# Altium footprint library CM7V-T1A-LOW-ESR-32.768KHZ-12.5PF-20-TA-QC.PcbLib: 2 footprints
Each footprint in its own frame and in the unit in brackets; x right, y up, seen from the top. Pads: shape width x height; smd on the part's side, far side on the other; paste and mask are expansions set on the pad; w line width, h text height; cw(c..) or ccw(c..) is an arc to the next point about the centre after c.
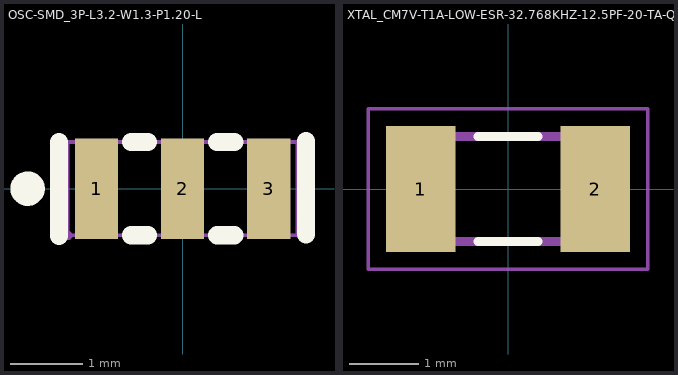
[diagram p0: the footprints below, top view; thin cyan lines are the x and y axes]

## OSC-SMD_3P-L3.2-W1.3-P1.20-L [mm]
pads (3):
  rect 0.6x1.4 smd mask+0.102: 1(-1.199,0) 2(0,0) 3(1.199,0)
Top Overlay:
  circle w0.24: c-2.159,0 r0.12
  lines w0.254: -1.722,-0.655 -1.722,0.645 ; -0.718,-0.65 -0.481,-0.65 ; -0.718,0.65 -0.481,0.65 ; 0.481,-0.65 0.718,-0.65 ; 0.481,0.65 0.718,0.65 ; 1.718,-0.636 1.718,0.664
Mechanical 6:
  drawing of 2 lines, arcs and shapes, not listed
Mechanical 15:
  region: -1.6,-0.71 -1.575,-0.71 -1.54,-0.675 -1.54,-0.625 -1.575,-0.59 -1.6,-0.59 -1.625,-0.59 -1.66,-0.625 -1.66,-0.675 -1.625,-0.71 -1.6,-0.71
  region: 0.999,0.65 1.399,0.65 1.399,-0.65 0.999,-0.65
  region: -0.2,0.65 0.2,0.65 0.2,-0.65 -0.2,-0.65
  region: -1.399,0.65 -0.999,0.65 -0.999,-0.65 -1.399,-0.65
  lines w0.051: -1.6,-0.65 -1.6,0.65 1.6,0.65 1.6,-0.65 -1.6,-0.65
3D body "User Library-Crystal SMD 3P 3213.SLDPRT": height 0.72, standoff 0.01, extent -1.6,-0.66 1.6,0.66

## XTAL_CM7V-T1A-LOW-ESR-32.768KHZ-12.5PF-20-TA-QC [mm]
pads (2):
  rect 1x1.8 smd: 1(-1.25,0) 2(1.25,0)
Top Overlay:
  lines w0.127: -0.43,-0.75 0.43,-0.75 ; -0.43,0.75 0.43,0.75
Mechanical 13:
  lines w0.127: -1.6,-0.75 -1.6,0.75 1.6,0.75 1.6,-0.75 -1.6,-0.75
Mechanical 15:
  lines w0.05: -2,-1.15 -2,1.15 2,1.15 2,-1.15 -2,-1.15
3D body "step_temp.STEP": height 0.65, standoff 0, extent -1.6,-0.75 1.6,0.75